# Altium schematic symbol library ERJ1GNF3000C.SchLib: 2 symbols
Pins are listed as number, name and electrical type; pins without a type are passive.

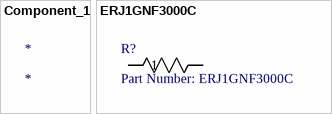
[diagram p0: symbols Component_1 to ERJ1GNF3000C]

## Component_1
designator *

## ERJ1GNF3000C
designator R?, comment Part Number: ERJ1GNF3000C
No Description Available; Vendor: Panasonic; Built_By: EMA_UL_Team; Manufacturer_Part_Number: ERJ1GNF3000C; Copyright: Copyright (C) 2018 Accelerated Designs. All rights reserved; RefDes: RefDes; Type: DEV; Value: Value
footprint 0201
pins: 1, 2